# Altium schematic symbol library TRANSISTORS.SchLib: 7 symbols
Pins are listed as number, name and electrical type; pins without a type are passive.

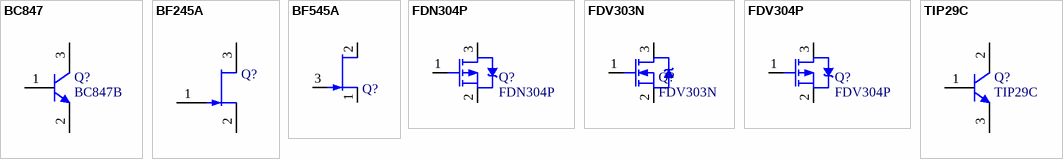
[diagram p0: symbols BC847 to TIP29C]

## BC847
designator Q?, comment BC847B
NPN Bipolar Transistor; Manufacturer: Generic Components; Class I: Discrete; Class II: BJT - Low Power; Published: 8-Jun-2000; Revision: July-2002: Re-released for DXP Platform.; Publisher: Altium Limited; Supplier 1: Farnell; Supplier Part Number 1: 1081232
footprint SOT23 (3 Pin)
pins: 1 B, 2 E, 3 C

## BF245A
designator Q?
JFET VHF / UHF Amplifier; Published: 29-Sep-2000; LatestRevisionDate: 17-Jul-2002; LatestRevisionNote: Re-released for DXP Platform.; DatasheetVersion: 1991; PackageVersion: 1996; PackageReference: 29-04; Publisher: Altium Limited; PackageDescription: TO, Flat Index; 3 In-Line, Axial Leads; Body Dia. 4.8mm; Leads 0.48 x 0.5 mm (max); ComponentLink1Description: Manufacturer Link; ComponentLink1URL: http://www.onsemi.com/site/products/landing?taxonomyID=194; ComponentLink2Description: Datasheet; ComponentLink2URL: http://www.onsemi.com/pub/Collateral/BF245A-D.PDF
footprint TO-92 (TO, Flat Index; 3 In-Line, Axial Leads; Body Dia. 4.8mm)
pins: 1 G, 2 S, 3 D

## BF545A
designator Q?
N-channel Silicon Junction Field-effect Transistor; Published: 17-Sep-2003; LatestRevisionDate: 12-Dec-2006; LatestRevisionNote: IPC-7351 Footprint Added.; DatasheetVersion: 29-Jul-1996; PackageVersion: May-1999; PackageReference: SOT23; Publisher: Altium Limited; PackageDescription: 3-Pin SOT-23 Package 0.95 mm Pitch, 2.3 mm Lead Span; ComponentLink1Description: Manufacturer Link; ComponentLink1URL: http://www.semiconductors.philips.com/; ComponentLink2Description: Datasheet; ComponentLink2URL: http://www.semiconductors.philips.com/acrobat/datasheets/BF545A_BF545B_BF545C_3.pdf
footprint SOT23 (3 Pin)
pins: 1 S, 2 D, 3 G

## FDN304P
designator Q?
P-Channel MOSFET; Published: 17-Sep-2003; DatasheetVersion: 25-Jul-2000; PackageVersion: Jul-2002; PackageReference: TSOP-6; Publisher: Altium Limited; PackageDescription: SOT-457/SC-74; 6 Leads; Body 3.1 x 2.9 mm, inc. leads (LxW max); Code_JEDEC: MO-193AA; ComponentLink1Description: Manufacturer Link; ComponentLink1URL: http://www.irf.com/; ComponentLink2Description: Datasheet; ComponentLink2URL: http://www.irf.com/product-info/datasheets/data/irf5850.pdf
footprint SOT23 (3 Pin)
pins: 1 G, 2 S, 3 D

## FDV303N
designator Q?
N-Channel MOSFET; PackageDocument: 1995/1996; Published: 8-Jun-2000; LatestRevisionDate: 17-Jul-2002; LatestRevisionNote: Re-released for DXP Platform.; PackageReference: E3; Publisher: Altium Limited
footprint SOT23 (3 Pin)
pins: 1 G, 2 S, 3 D

## FDV304P
designator Q?
P-Channel MOSFET; Published: 17-Sep-2003; DatasheetVersion: 25-Jul-2000; PackageVersion: Jul-2002; PackageReference: TSOP-6; Publisher: Altium Limited; PackageDescription: SOT-457/SC-74; 6 Leads; Body 3.1 x 2.9 mm, inc. leads (LxW max); Code_JEDEC: MO-193AA; ComponentLink1Description: Manufacturer Link; ComponentLink1URL: http://www.irf.com/; ComponentLink2Description: Datasheet; ComponentLink2URL: http://www.irf.com/product-info/datasheets/data/irf5850.pdf
footprint SOT23 (3 Pin)
pins: 1 G, 2 S, 3 D

## TIP29C
designator Q?
NPN Bipolar Power Transistor; Revision: 10.7.2013; Publisher: Bep1; Supplier 1: Farnell; Supplier Part Number 1: 9804102
footprint TO-220_H_V1 (3 lead, pitch 2.5, horizontal)
footprint TO-220_H_V2 (3 lead, pitch 2.5, horizontal)
footprint TO-220_H_V3 (3 lead, pitch 2.5, horizontal)
footprint TO-220_V (3 lead, pitch 2.5, vertical)
pins: 1 B, 2 C, 3 E